# Altium schematic symbol library QPL9547TR7.SchLib: 1 symbol
Pins are listed as number, name and electrical type; pins without a type are passive.

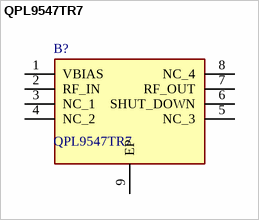
[diagram p0: symbol QPL9547TR7]

## QPL9547TR7
designator B?
0.1 - 6 GHz Ultra Low-Noise LNA; Manufacturer_Name: Qorvo; Geometry.Height: 0.95mm; Manufacturer_Part_Number: QPL9547TR7; Mouser Part Number: 772-QPL9547TR7; Mouser Price/Stock: https://www.mouser.co.uk/ProductDetail/Qorvo/QPL9547TR7?qs=7MVldsJ5UaxZMCnAEuCHXA%3D%3D; Arrow Part Number: *; Arrow Price/Stock: *; Datasheet Link: https://www.qorvo.com/products/d/da007268
footprint SON50P200X200X95-9N-D
pins: 1 VBIAS, 2 RF_IN, 3 NC_1, 4 NC_2, 5 NC_3, 6 SHUT_DOWN, 7 RF_OUT, 8 NC_4, 9 EP